# Altium footprint library ublox.PcbLib: 1 footprints
Each footprint in its own frame and in the unit in brackets; x right, y up, seen from the top. Pads: shape width x height; smd on the part's side, far side on the other; paste and mask are expansions set on the pad; w line width, h text height; cw(c..) or ccw(c..) is an arc to the next point about the centre after c.
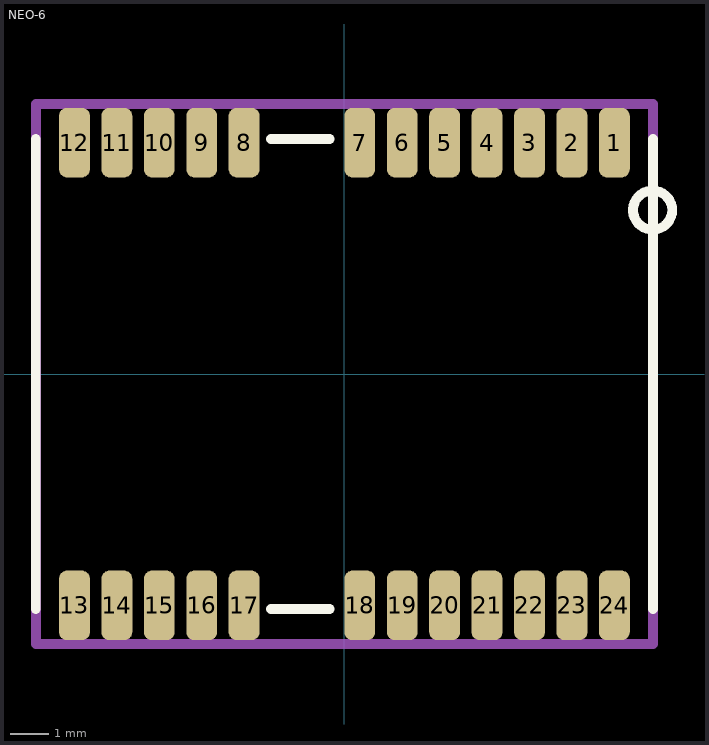
[diagram p0: the footprint, top view; thin cyan lines are the x and y axes]

## NEO-6 [mm]
height 3
pads (24):
  rrect50% 0.8x1.8 smd: 1(7,6) 2(5.9,6) 3(4.8,6) 4(3.7,6) 5(2.6,6) 6(1.5,6) 7(0.4,6) 8(-2.6,6) 9(-3.7,6) 10(-4.8,6) 11(-5.9,6) 12(-7,6) 13(-7,-6) 14(-5.9,-6) 15(-4.8,-6) 16(-3.7,-6) 17(-2.6,-6) 18(0.4,-6) 19(1.5,-6) 20(2.6,-6) 21(3.7,-6) 22(4.8,-6) 23(5.9,-6) 24(7,-6)
Top Overlay:
  circle w0.254: c7.992,4.25 r0.508
  lines w0.254: -8.001,-6.096 -8.001,6.096 ; -1.905,-6.096 -0.381,-6.096 ; -1.905,6.096 -0.381,6.096 ; 8.001,-6.096 8.001,6.096
Mechanical 15:
  lines w0.254: -8,-7 -8,7 8,7 8,-7 -8,-7
3D body: height 2.4, standoff 0, extent -8,-6.1 8,6.1